# EAGLE library part SI4463 (library RitLaunchInitiative)
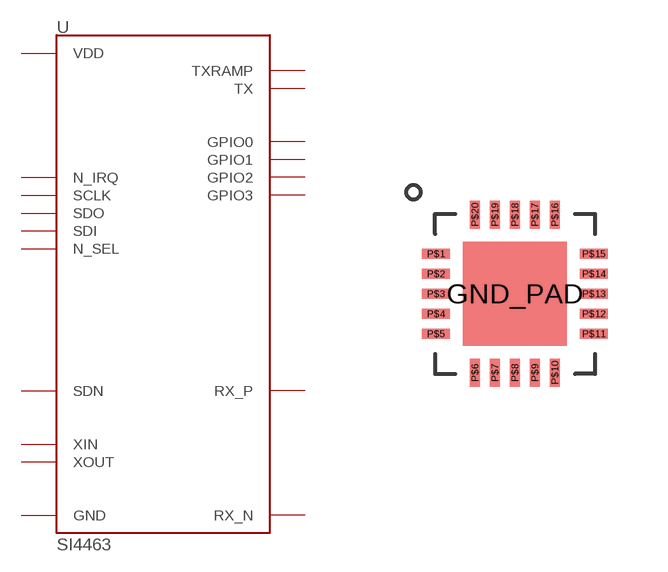
[diagram p6: symbol with the pads of 20-VFQFN; footprint 20-VFQFN]

Designator prefix -

## SI4463  [20-VFQFN]
GND_PAD  GND
P$1  SDN
P$2  RX_P
P$3  RX_N
P$4  TX
P$6  VDD
P$7  TXRAMP
P$8  VDD
P$9  GPIO0
P$10  GPIO1
P$11  N_IRQ
P$12  SCLK
P$13  SDO
P$14  SDI
P$15  N_SEL
P$16  XOUT
P$17  XIN
P$18  GND
P$19  GPIO2
P$20  GPIO3

## Footprint 20-VFQFN (pad centres in mm)
smd 2.6 x 2.6: GND_PAD 0,0
smd 0.7 x 0.25: P$1 -1.975,1; P$2 -1.975,0.5; P$3 -1.975,0; P$4 -1.975,-0.5; P$5 -1.975,-1; P$11 1.975,-1; P$12 1.975,-0.5; P$13 1.975,0; P$14 1.975,0.5; P$15 1.975,1
smd 0.25 x 0.7: P$6 -1,-1.975; P$7 -0.5,-1.975; P$8 0,-1.975; P$9 0.5,-1.975; P$10 1,-1.975; P$16 1,1.975; P$17 0.5,1.975; P$18 0,1.975; P$19 -0.5,1.975; P$20 -1,1.975